# Altium footprint library openmv-ae3.PcbLib: 66 footprints (part 1 of 5)
Each footprint in its own frame and in the unit in brackets; x right, y up, seen from the top. Pads: shape width x height; smd on the part's side, far side on the other; paste and mask are expansions set on the pad; w line width, h text height; cw(c..) or ccw(c..) is an arc to the next point about the centre after c.
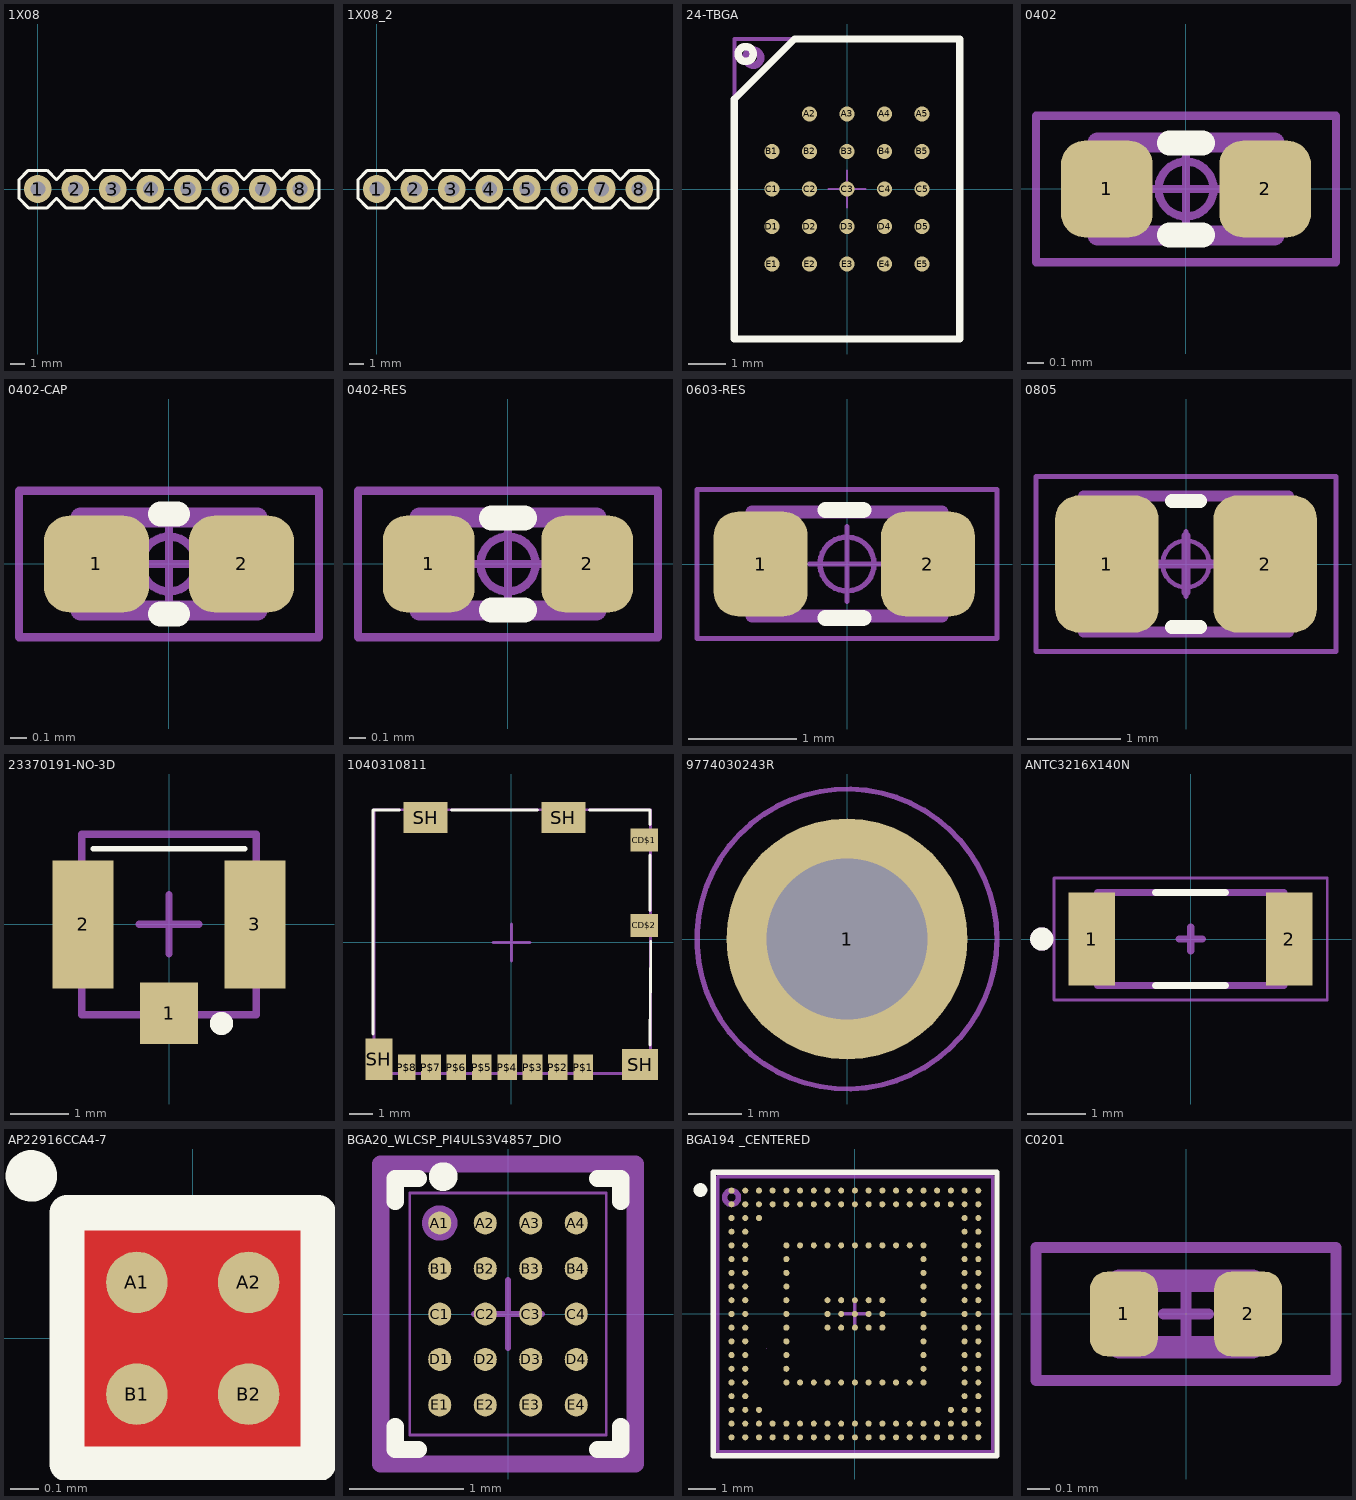
[diagram p0: the footprints below, top view; thin cyan lines are the x and y axes]

## 1X08 [mil] "1X08"
pads (8):
  round 74 hole 40: 1(0,0) 2(100,0) 3(200,0) 4(300,0) 5(400,0) 6(500,0) 7(600,0) 8(700,0)
Top Overlay:
  lines w8: -50,-25 -25,-50 25,-50 50,-25 75,-50 125,-50 150,-25 175,-50 225,-50 250,-25 275,-50 325,-50 350,-25 375,-50 425,-50 450,-25 475,-50 525,-50 550,-25 575,-50 625,-50 650,-25 675,-50 725,-50 750,-25 750,25 725,50 675,50 650,25 625,50 575,50 550,25 525,50 475,50 450,25 425,50 375,50 350,25 325,50 275,50 250,25 225,50 175,50 150,25 125,50 75,50 50,25 25,50 -25,50 -50,25 -50,-25
3D body "960240.STEP": height 334.65, standoff -412.98, extent -50.59,-50 749.41,50

## 1X08_2 [mil]
pads (8):
  round 74 hole 40: 1(0,0) 2(100,0) 3(200,0) 4(300,0) 5(400,0) 6(500,0) 7(600,0) 8(700,0)
Top Overlay:
  lines w8: -50,-25 -25,-50 25,-50 50,-25 75,-50 125,-50 150,-25 175,-50 225,-50 250,-25 275,-50 325,-50 350,-25 375,-50 425,-50 450,-25 475,-50 525,-50 550,-25 575,-50 625,-50 650,-25 675,-50 725,-50 750,-25 750,25 725,50 675,50 650,25 625,50 575,50 550,25 525,50 475,50 450,25 425,50 375,50 350,25 325,50 275,50 250,25 225,50 175,50 150,25 125,50 75,50 50,25 25,50 -25,50 -50,25 -50,-25
3D body "960240.STEP": height 334.65, standoff -412.98, extent -50.59,-50 749.41,50

## 24-TBGA [mm]
pads (24):
  round 0.4 smd mask+0.051: A2(-1,2) A3(0,2) A4(1,2) A5(2,2) B1(-2,1) B2(-1,1) B3(0,1) B4(1,1) B5(2,1) C1(-2,0) C2(-1,0) C3(0,0) C4(1,0) C5(2,0) D1(-2,-1) D2(-1,-1) D3(0,-1) D4(1,-1) D5(2,-1) E1(-2,-2) E2(-1,-2) E3(0,-2) E4(1,-2) E5(2,-2)
Top Overlay:
  circle w0.2: c-2.7,3.6 r0.2
  lines w0.2: -3,-4 -3,2.4 -1.4,4 3,4 3,-4 -3,-4
Top 3D Body:
  circle w0.2: c-2.5,3.5 r0.2
  lines w0.051: -0.5,0 0,0 ; 0,-0.5 0,0 ; 0,0.5 0,0 ; 0.5,0 0,0
  lines w0.1: -3,-4 3,-4 3,4 -3,4 -3,-4
  text ".designator" at -2.2,-3.411 h0.51
3D body: height 0.51, standoff 0, extent -3,-4 3,4

## 0402 [mm] "Chip Resistor, 2-Leads, Body  0402 (in) 1005 (mm), IPC Medium Density"
height 0.5
pads (2):
  rrect51% 0.55x0.58 smd mask+0.05: 1(-0.475,0) 2(0.475,0)
Top Overlay:
  lines w0.15: -0.1,-0.275 0.1,-0.275 ; -0.1,0.275 0.1,0.275
Top 3D Body:
  lines w0.12: -0.53,-0.28 0.53,-0.28 0.53,0.28 -0.53,0.28 -0.53,-0.28
  text ".designator" at -0.432,-0.152 h0.3
Top Courtyard:
  circle w0.05: c0,0 r0.165
  lines w0.05: -0.22,0 0.22,0 ; 0,-0.22 0,0.22 ; -0.9,-0.44 0.9,-0.44 0.9,0.44 -0.9,0.44 -0.9,-0.44
3D body "RES-0402.stp": height 0.34, standoff 0, extent -0.5,-0.25 0.5,0.25

## 0402-CAP [mm] "Chip Capacitor, 2-Leads, Body  0402 (in) 1005 (mm), IPC Medium Density"
height 0.5
pads (2):
  rrect52% 0.63x0.58 smd mask+0.05: 1(-0.435,0) 2(0.435,0)
Top Overlay:
  lines w0.15: -0.05,-0.3 0.05,-0.3 ; -0.05,0.3 0.05,0.3
Top 3D Body:
  lines w0.12: -0.53,-0.28 -0.53,0.28 0.53,0.28 0.53,-0.28 -0.53,-0.28
  text ".designator" at -0.432,-0.178 h0.3
Top Courtyard:
  circle w0.05: c0,0 r0.165
  lines w0.05: -0.22,0 0.22,0 ; 0,-0.22 0,0.22 ; -0.9,-0.44 -0.9,0.44 0.9,0.44 0.9,-0.44 -0.9,-0.44
3D body "CAP-0402.stp": height 0.5, standoff 0, extent -0.5,-0.25 0.5,0.25

## 0402-RES [mm] "Chip Resistor, 2-Leads, Body  0402 (in) 1005 (mm), IPC Medium Density"
height 0.5
pads (2):
  rrect51% 0.55x0.58 smd mask+0.05: 1(-0.475,0) 2(0.475,0)
Top Overlay:
  lines w0.15: -0.1,-0.275 0.1,-0.275 ; -0.1,0.275 0.1,0.275
Top 3D Body:
  lines w0.12: -0.53,-0.28 0.53,-0.28 0.53,0.28 -0.53,0.28 -0.53,-0.28
  text ".designator" at -0.432,-0.152 h0.3
Top Courtyard:
  circle w0.05: c0,0 r0.165
  lines w0.05: -0.22,0 0.22,0 ; 0,-0.22 0,0.22 ; -0.9,-0.44 0.9,-0.44 0.9,0.44 -0.9,0.44 -0.9,-0.44
3D body "RES-0402.stp": height 0.34, standoff 0, extent -0.5,-0.25 0.5,0.25

## 0603-RES [mm]
height 1.3
pads (2):
  rrect51% 0.87x0.97 smd mask+0.05: 1(-0.8,0) 2(0.75,0)
Top Overlay:
  lines w0.15: -0.2,-0.5 0.15,-0.5 ; -0.2,0.5 0.15,0.5
Top 3D Body:
  lines w0.12: -0.88,-0.48 -0.88,0.48 0.88,0.48 0.88,-0.48 -0.88,-0.48
  text ".designator" at -0.762,-0.305 h0.3
Top Courtyard:
  circle w0.05: c0,0 r0.25
  lines w0.05: -0.345,0 0.345,0 ; 0,-0.345 0,0.345 ; -1.39,-0.69 1.39,-0.69 1.39,0.69 -1.39,0.69 -1.39,-0.69
3D body "R0603.step": height 0.45, standoff 0, extent -0.8,-0.4 0.8,0.4

## 0805 [mm] "Chip Capacitor, Body 0805 imperial, 2.0x1.2mm, IPC Medium Density"
height 0.7
pads (2):
  rrect45% 1.11x1.47 smd mask+0.05: 1(-0.85,0) 2(0.85,0)
Top Overlay:
  lines w0.15: -0.15,-0.675 0.15,-0.675 ; -0.15,0.675 0.15,0.675
Top 3D Body:
  lines w0.1: -0.3,0 0,0 ; 0,-0.3 0,0 ; 0,0.3 0,0 ; 0.3,0 0,0
  lines w0.12: -1.1,-0.73 -1.1,0.73 1.1,0.73 1.1,-0.73 -1.1,-0.73
  text ".designator" at -1,-0.625 h0.3
Top Courtyard:
  circle w0.05: c0,0 r0.25
  lines w0.05: -0.35,0 0.35,0 ; 0,-0.35 0,0.35 ; -1.61,-0.94 -1.61,0.94 1.61,0.94 1.61,-0.94 -1.61,-0.94
3D body "CAP-0805.stp": height 1.25, standoff 0, extent -1,-0.625 1,0.625

## 23370191-NO-3D [mm] "23370191"
pads (3):
  rect 1x1.05 smd: 1(0,-1.525)
  rect 1.05x2.2 smd: 2(-1.475,0) 3(1.475,0)
Top Overlay:
  lines w0.1: -1.3,1.3 1.3,1.3
  lines w0.2: 0.8,-1.7 ccw(c0.9,-1.7) 1,-1.7 ccw(c0.9,-1.7) 0.8,-1.7
Top 3D Body:
  lines w0.127: -0.508,0 0,0 ; 0,-0.508 0,0 ; 0,0.508 0,0 ; 0.508,0 0,0 ; -1.5,-1.55 1.5,-1.55 1.5,1.55 -1.5,1.55 -1.5,-1.55
  text ".designator" at -1.325,-1.65 h0.64

## 1040310811 [mm] "1040310811"
pads (14):
  rect 1.2x1 smd: CD$1(5.747,4.438) CD$2(5.747,0.738)
  rect 0.85x1.1 smd: P$1(3.112,-5.412) P$2(2.013,-5.412) P$3(0.912,-5.412) P$4(-0.188,-5.412) P$5(-1.287,-5.412) P$6(-2.387,-5.412) P$7(-3.488,-5.412)
  rect 0.75x1.1 smd: P$8(-4.538,-5.412)
  rect 1.17x1.8 smd: SH(-5.747,-5.062)
  rect 1.9x1.35 smd: SH(-3.722,5.412) SH(2.248,5.412)
  rect 1.55x1.35 smd: SH(5.573,-5.288)
Top Overlay:
  lines w0.127: -5.992,-3.962 -5.992,5.738 -4.842,5.738 ; -2.592,5.738 1.133,5.738 ; 3.383,5.738 6.007,5.738 6.007,5.113 ; 6.007,-4.437 6.033,0.038 ; 6.008,1.388 6.008,3.788
Top 3D Body:
  lines w0.127: -0.8,0 0,0 ; 0,-0.8 0,0 ; 0,0.8 0,0 ; 0.8,0 0,0 ; -5.95,-5.675 -5.95,5.75 6.025,5.75 6.025,-5.675 -5.95,-5.675
  text ".designator" at -2.5,-2.55 h0.64
3D body "1040310811.stp": height 1.46, standoff 0.01, extent -5.942,-5.662 6.008,5.738

## 9774030243R [mm] "Round Standoff Threaded M2x0.4 Steel 0.118\" (3.00mm)"
pads (1):
  round 4.5 hole 3 mask+0.05: 1(0,0)
Top Paste:
  circle w3: c0,0 r0.707
Top 3D Body:
  circle w0.1: c0,0 r2.175
  circle w0.1: c0,0 r1.25
  lines w0.1: -1.25,0 0,0 ; 0,-1.25 0,0 ; 0,1.25 0,0 ; 1.25,0 0,0
  text ".designator" at -0.9,1.3 h0.5
Top Courtyard:
  circle w0.1: c0,0 r2.8
  lines w0.1: -1.25,0 0,0 ; 0,-1.25 0,0 ; 0,1.25 0,0 ; 1.25,0 0,0
3D body "9774030243R (rev1).stp": height 3.01, standoff -1.39, extent -2.175,-2.172 2.175,2.172

## ANTC3216X140N [mm] "ANTC3216X140N"
pads (2):
  rect 0.8x1.6 smd: 1(-1.7,0) 2(1.7,0)
Top Overlay:
  circle w0.2: c-2.558,0 r0.1
  lines w0.127: -0.6,-0.8 0.6,-0.8 ; -0.6,0.8 0.6,0.8
Top 3D Body:
  circle w0.2: c-2.558,0 r0.1
  lines w0.127: -0.2,0 0.2,0 ; 0,-0.2 0,0.2 ; -1.6,-0.8 -1.6,0.8 1.6,0.8 1.6,-0.8 -1.6,-0.8
  text ".designator" at -1.5,0.75 h0.64
Top Courtyard:
  lines w0.05: -2.35,-1.05 -2.35,1.05 2.35,1.05 2.35,-1.05 -2.35,-1.05
3D body "step_temp.STEP": height 1.2, standoff 0, extent -1.6,-0.8 1.6,0.8

## AP22916CCA4-7 [mm]
pads (4):
  round 0.22 smd mask+0.05: A1(-0.2,0.2) A2(0.2,0.2) B1(-0.2,-0.2) B2(0.2,-0.2)
Top Layer:
  pour cut-out: -0.4,0.4 -0.4,-0.4 0.4,-0.4 0.4,0.4 0.375,0.4
Top Overlay:
  circle w0.1: c-0.578,0.582 r0.042
  lines w0.127: -0.45,-0.45 0.45,-0.45 0.45,0.45 -0.45,0.45 -0.45,-0.45
Top 3D Body:
  circle w0.1: c-0.297,0.29 r0.018
  lines w0.051: -0.125,0 0,0 ; 0,-0.125 0,0 ; 0,0.125 0,0 ; 0.125,0 0,0 ; -0.4,-0.4 -0.4,0.4 0.4,0.4 0.4,-0.4 -0.4,-0.4
  text ".designator" at -0.345,-0.452 h0.51
3D body: height 0.51, standoff 0, extent -0.4,-0.4 0.4,0.4

## BGA20_WLCSP_PI4ULS3V4857_DIO [mil]
pads (20):
  round 8 smd paste+0 mask+0: A1(-23.62,31.5) A2(-7.87,31.5) A3(7.87,31.5) A4(23.62,31.5) B1(-23.62,15.75) B2(-7.87,15.75) B3(7.87,15.75) B4(23.62,15.75) C1(-23.62,0) C2(-7.87,0) C3(7.87,0) C4(23.62,0) D1(-23.62,-15.75) D2(-7.87,-15.75) D3(7.87,-15.75) D4(23.62,-15.75) E1(-23.62,-31.5) E2(-7.87,-31.5) E3(7.87,-31.5) E4(23.62,-31.5)
Top Overlay:
  circle w7.87: c-22.46,47.57 r1.02
  lines w6: -39,-38.97 -39,-46.93 -30.99,-46.93 ; -39,38.97 -39,46.93 -30.99,46.93 ; 30.99,-46.93 39,-46.93 39,-38.97 ; 30.99,46.93 39,46.93 39,38.97
Top 3D Body:
  circle w7.87: c-23.62,31.5 r2.18
  lines w1: -34,-41.93 -34,41.93 34,41.93 34,-41.93 -34,-41.93
  lines w2: -11.81,0 0,0 ; 0,-11.81 0,0 ; 0,11.81 0,0 ; 11.81,0 0,0
  text ".designator" at -31.5,-60.43 h20
Top Courtyard:
  lines w6: -44,-51.93 44,-51.93 44,51.93 -44,51.93 -44,-51.93
3D body "BGA20_WLCSP_PI4ULS3V4857_DIO.step": height 21.1, standoff 0, extent -34.02,-41.93 34.02,41.93

## BGA194 _CENTERED [mm]
pads (194):
  round 0.221 smd mask+0.025: A1(-4.501,4.501) A2(-4.001,4.501) A3(-3.501,4.501) A4(-3.001,4.501) A5(-2.501,4.501) A6(-2.001,4.501) A7(-1.501,4.501) A8(-1.001,4.501) A9(-0.501,4.501) A10(-0.001,4.501) A11(0.499,4.501) A12(0.999,4.501) A13(1.499,4.501) A14(1.999,4.501) A15(2.499,4.501) A16(2.999,4.501) A17(3.499,4.501) A18(3.999,4.501) A19(4.499,4.501) B1(-4.501,4.001) B2(-4.001,4.001) B3(-3.501,4.001) B4(-3.001,4.001) B5(-2.501,4.001) B6(-2.001,4.001) B7(-1.501,4.001) B8(-1.001,4.001) B9(-0.501,4.001) B10(-0.001,4.001) B11(0.499,4.001) B12(0.999,4.001) B13(1.499,4.001) B14(1.999,4.001) B15(2.499,4.001) B16(2.999,4.001) B17(3.499,4.001) B18(3.999,4.001) B19(4.499,4.001) C1(-4.501,3.501) C2(-4.001,3.501) C3(-3.501,3.501) C18(3.999,3.501) C19(4.499,3.501) D1(-4.501,3.001) D2(-4.001,3.001) D18(3.999,3.001) D19(4.499,3.001) E1(-4.501,2.501) E2(-4.001,2.501) E5(-2.501,2.501) E6(-2.001,2.501) E7(-1.501,2.501) E8(-1.001,2.501) E9(-0.501,2.501) E10(-0.001,2.501) E11(0.499,2.501) E12(0.999,2.501) E13(1.499,2.501) E14(1.999,2.501) E15(2.499,2.501) E18(3.999,2.501) E19(4.499,2.501) F1(-4.501,2.001) F2(-4.001,2.001) F5(-2.501,2.001) F15(2.499,2.001) F18(3.999,2.001) F19(4.499,2.001) G1(-4.501,1.501) G2(-4.001,1.501) G5(-2.501,1.501) G15(2.499,1.501) G18(3.999,1.501) G19(4.499,1.501) H1(-4.501,1.001) H2(-4.001,1.001) H5(-2.501,1.001) H15(2.499,1.001) H18(3.999,1.001) H19(4.499,1.001) J1(-4.501,0.501) J2(-4.001,0.501) J5(-2.501,0.501) J8(-1.001,0.501) J9(-0.501,0.501) J10(-0.001,0.501) J11(0.499,0.501) J12(0.999,0.501) J15(2.499,0.501) J18(3.999,0.501) J19(4.499,0.501) K1(-4.501,0.001) K2(-4.001,0.001) K5(-2.501,0.001) K8(-1.001,0.001) K9(-0.501,0.001) K10(-0.001,0.001) K11(0.499,0.001) K12(0.999,0.001) K15(2.499,0.001) K18(3.999,0.001) K19(4.499,0.001) L1(-4.501,-0.499) L2(-4.001,-0.499) L5(-2.501,-0.499) L8(-1.001,-0.499) L9(-0.501,-0.499) L10(-0.001,-0.499) L11(0.499,-0.499) L12(0.999,-0.499) L15(2.499,-0.499) L18(3.999,-0.499) L19(4.499,-0.499) M1(-4.501,-0.999) M2(-4.001,-0.999) M5(-2.501,-0.999) M15(2.499,-0.999) M18(3.999,-0.999) M19(4.499,-0.999) N1(-4.501,-1.499) N2(-4.001,-1.499) N5(-2.501,-1.499) N15(2.499,-1.499) N18(3.999,-1.499) N19(4.499,-1.499) P1(-4.501,-1.999) P2(-4.001,-1.999) P5(-2.501,-1.999) P15(2.499,-1.999) P18(3.999,-1.999) P19(4.499,-1.999) R1(-4.501,-2.499) R2(-4.001,-2.499) R5(-2.501,-2.499) R6(-2.001,-2.499) R7(-1.501,-2.499) R8(-1.001,-2.499) R9(-0.501,-2.499) R10(-0.001,-2.499) R11(0.499,-2.499) R12(0.999,-2.499) R13(1.499,-2.499) R14(1.999,-2.499) R15(2.499,-2.499) R18(3.999,-2.499) R19(4.499,-2.499) T1(-4.501,-2.999) T2(-4.001,-2.999) T18(3.999,-2.999) T19(4.499,-2.999) U1(-4.501,-3.499) U2(-4.001,-3.499) U3(-3.501,-3.499) U17(3.499,-3.499) U18(3.999,-3.499) U19(4.499,-3.499) V1(-4.501,-3.999) V2(-4.001,-3.999) V3(-3.501,-3.999) V4(-3.001,-3.999) V5(-2.501,-3.999) V6(-2.001,-3.999) V7(-1.501,-3.999) V8(-1.001,-3.999) V9(-0.501,-3.999) V10(-0.001,-3.999) V11(0.499,-3.999) V12(0.999,-3.999) V13(1.499,-3.999) V14(1.999,-3.999) V15(2.499,-3.999) V16(2.999,-3.999) V17(3.499,-3.999) V18(3.999,-3.999) V19(4.499,-3.999) W1(-4.501,-4.499) W2(-4.001,-4.499) W3(-3.501,-4.499) W4(-3.001,-4.499) W5(-2.501,-4.499) W6(-2.001,-4.499) W7(-1.501,-4.499) W8(-1.001,-4.499) W9(-0.501,-4.499) W10(-0.001,-4.499) W11(0.499,-4.499) W12(0.999,-4.499) W13(1.499,-4.499) W14(1.999,-4.499) W15(2.499,-4.499) W16(2.999,-4.499) W17(3.499,-4.499) W18(3.999,-4.499) W19(4.499,-4.499)
Top Overlay:
  circle w0.254: c-5.636,4.521 r0.125
  lines w0.2: -5.161,-5.169 5.182,-5.169 5.182,5.166 -5.161,5.166 -5.161,-5.169
Top 3D Body:
  circle w0.2: c-4.5,4.25 r0.25
  region: -1.302,0.312 -1.307,0.312 -1.307,0.316 -1.302,0.316
  region: -3.24,-1.262 -3.235,-1.262 -3.235,-1.267 -3.24,-1.267
  region: -3.231,-1.262 -3.231,-1.258 -3.227,-1.258 -3.227,-1.262
  region: -0.892,-0.886 -0.888,-0.886 -0.888,-0.89 -0.892,-0.89
  region: -3.175,-1.232 -3.171,-1.232 -3.171,-1.236 -3.175,-1.236
  region: -3.171,-1.232 -3.171,-1.227 -3.162,-1.227 -3.162,-1.232 -3.167,-1.232
  region: -3.18,-1.236 -3.175,-1.236 -3.175,-1.24 -3.18,-1.24
  lines w0.127: -0.5,0 0.5,0 ; 0,-0.5 0,0.5 ; -5.011,-5.022 -5.011,5.011 5.022,5.011 5.022,-5.022 -5.011,-5.022
  text ".designator" at -3.5,-4.385 h0.76
3D body: height 0.91, standoff 0, extent -4.757,4.247 -4.249,4.755
3D body: height 0.89, standoff 0.25, extent -4.983,-4.986 4.991,4.992
3D body: height 0.25, standoff 0, extent -5.014,-5.022 5.019,5.018

## C0201 [mil] "0201 IPC-7351"
height 10.24
pads (2):
  rrect50% 12x15 smd mask+1.97: 1(-11,0) 2(11,0)
Top 3D Body:
  lines w3.94: -11.81,-5.91 -11.81,5.91 11.81,5.91 11.81,-5.91 -11.81,-5.91
  text ".designator" at -7.87,-2.95 h15.75
Top Courtyard:
  lines w1.97: -3.94,0 0,0 ; 0,-3.94 0,0 ; 0,3.94 0,0 ; 3.94,0 0,0 ; -26.57,-11.81 -26.57,11.81 26.57,11.81 26.57,-11.81 -26.57,-11.81
3D body "C0201_035.step": height 13.78, standoff 0, extent -11.81,-5.88 11.81,5.92